# EAGLE library part EMW3165 (library cTechnologies_modules)
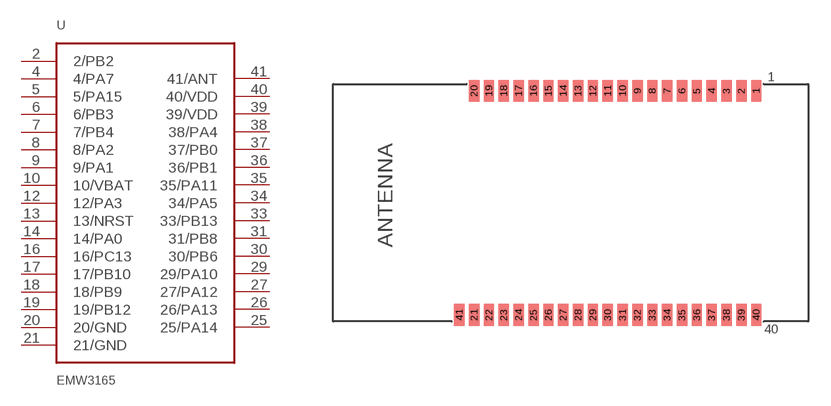
[diagram p2: symbol with the pads of EMW3165; footprint EMW3165]

Designator prefix -

## EMW3165  [EMW3165]
2  2/PB2
4  4/PA7
5  5/PA15
6  6/PB3
7  7/PB4
8  8/PA2
9  9/PA1
10  10/VBAT  pwr
12  12/PA3
13  13/NRST
14  14/PA0
16  16/PC13
17  17/PB10
18  18/PB9
19  19/PB12
20  20/GND  pwr
21  21/GND  pwr
25  25/PA14
26  26/PA13
27  27/PA12
29  29/PA10
30  30/PB6
31  31/PB8
33  33/PB13
34  34/PA5
35  35/PA11
36  36/PB1
37  37/PB0
38  38/PA4
39  39/VDD  pwr
40  40/VDD  pwr
41  41/ANT  out

## Footprint EMW3165 (pad centres in mm)
smd 0.7 x 1.45: 1 12.5,7.55; 2 11.5,7.55; 3 10.5,7.55; 4 9.5,7.55; 5 8.5,7.55; 6 7.5,7.55; 7 6.5,7.55; 8 5.5,7.55; 9 4.5,7.55; 10 3.5,7.55; 11 2.5,7.55; 12 1.5,7.55; 13 0.5,7.55; 14 -0.5,7.55; 15 -1.5,7.55; 16 -2.5,7.55; 17 -3.5,7.55; 18 -4.5,7.55; 19 -5.5,7.55; 20 -6.5,7.55; 21 -6.5,-7.55; 22 -5.5,-7.55; 23 -4.5,-7.55; 24 -3.5,-7.55; 25 -2.5,-7.55; 26 -1.5,-7.55; 27 -0.5,-7.55; 28 0.5,-7.55; 29 1.5,-7.55; 30 2.5,-7.55; 31 3.5,-7.55; 32 4.5,-7.55; 33 5.5,-7.55; 34 6.5,-7.55; 35 7.5,-7.55; 36 8.5,-7.55; 37 9.5,-7.55; 38 10.5,-7.55; 39 11.5,-7.55; 40 12.5,-7.55; 41 -7.5,-7.55